# Altium integrated library MAX232ID.IntLib: 1 symbol
Pins are listed as number, name and electrical type; pins without a type are passive.

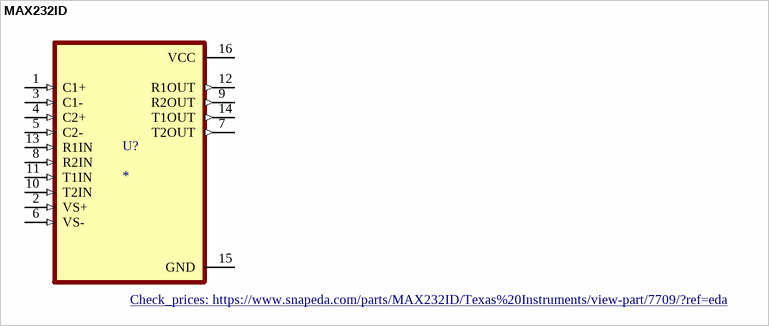
[diagram p0: symbol MAX232ID]

## MAX232ID
designator U?
Dual EIA-232 driver and receiver 16-SOIC -40 to 85; MF: Texas Instruments; MP: MAX232ID; Availability: Good; Value: *; Package: SOIC-16 Texas Instruments; Price: None; SnapEDA_Link: https://www.snapeda.com/parts/MAX232ID/Texas%20Instruments/view-part/7709/?ref=snap; Purchase-URL: https://pricing.snapeda.com/search/part/MAX232ID/?ref=eda; Check_prices: https://www.snapeda.com/parts/MAX232ID/Texas%20Instruments/view-part/7709/?ref=eda
footprint SOIC127P600X175-16N
pins: 1 C1+ (in), 2 VS+ (in), 3 C1- (in), 4 C2+ (in), 5 C2- (in), 6 VS- (in), 7 T2OUT (out), 8 R2IN (in), 9 R2OUT (out), 10 T2IN (in), 11 T1IN (in), 12 R1OUT (out), 13 R1IN (in), 14 T1OUT (out), 15 GND (power), 16 VCC (power)